# EAGLE library part 1XRJ45_MM_JACK (library main)
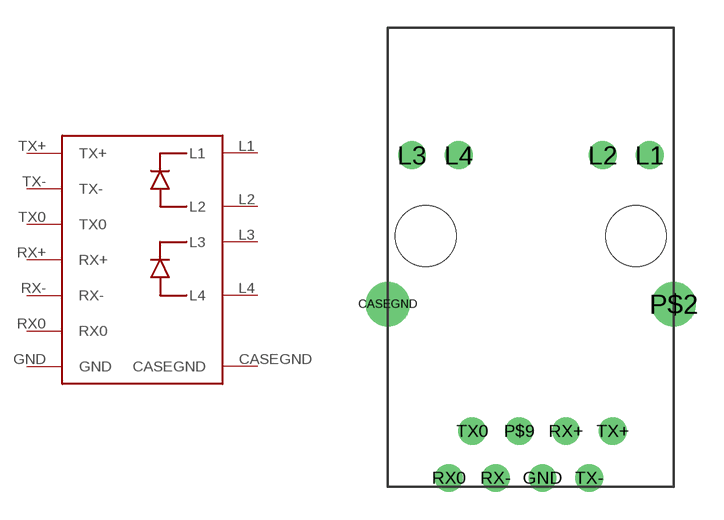
[diagram p3: symbol with the pads of 1XRJ45_MM_JACK; footprint 1XRJ45_MM_JACK]

Designator prefix -

## 1XRJ45_MM_JACK  [1XRJ45_MM_JACK]
CASEGND  CASEGND
GND  GND
L1  L1
L2  L2
L3  L3
L4  L4
RX0  RX0
RX+  RX+
RX-  RX-
TX0  TX0
TX+  TX+
TX-  TX-

## Footprint 1XRJ45_MM_JACK (pad centres in mm)
drill 1.6 round: CASEGND -7.75,-3.7; P$2 7.75,-3.7
drill 1 round: GND 0.635,-13.13; L1 6.44,4.38; L2 3.9,4.38; L3 -6.44,4.38; L4 -3.9,4.38; P$9 -0.635,-10.59; RX0 -4.445,-13.13; RX+ 1.905,-10.59; RX- -1.905,-13.13; TX0 -3.175,-10.59; TX+ 4.445,-10.59; TX- 3.175,-13.13
hole 3.3 at 5.7,0
hole 3.3 at -5.7,0